# EAGLE library part ES?* (library MDB_HOME)
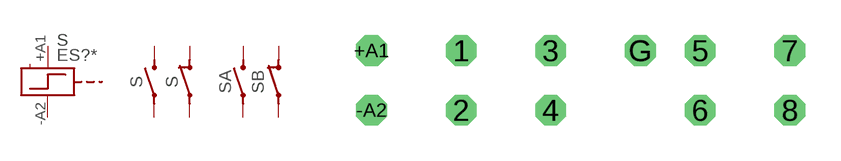
[diagram p58: symbol with the pads of ELTAKO; footprint ELTAKO]

Designator prefix S; gates G$1=ES12-110-UC G$2=S_CLOSER G$3=S_OPENER A=S_CLOSER_NAM B=S_OPENER_NAM

## ES12-110-UC  [ELTAKO]
1  G$2:1  pas
2  G$2:2  pas
3  G$3:1  pas
4  G$3:2  pas
5  A:1  pas
6  A:2  pas
7  B:1  pas
8  B:2  pas
+A1  G$1:A1
-A2  G$1:A2
G  G$1:GL

## Footprint ELTAKO (pad centres in mm)
drill 0.8 octagon: 1 1.27,1.27; 2 1.27,-1.27; 3 5.08,1.27; 4 5.08,-1.27; 5 11.43,1.27; 6 11.43,-1.27; 7 15.24,1.27; 8 15.24,-1.27; +A1 -2.54,1.27; -A2 -2.54,-1.27; G 8.89,1.27